# Altium schematic symbol library LM7812.SchLib: 1 symbol
Pins are listed as number, name and electrical type; pins without a type are passive.

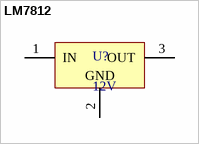
[diagram p0: symbol LM7812]

## LM7812
designator U?, comment 12V
footprint TO-220_Bended_Rad
pins: 1 IN (power), 2 GND (power), 3 OUT (power)